# EAGLE library part *555 (library HyTechDevices)
**555 Precision Timer NA555, NE555, SA555, SE555 <https://www.ti.com/lit/ds/symlink/na555.pdf> LM555 <https://www.ti.com/lit/ds/symlink/lm555.pdf>
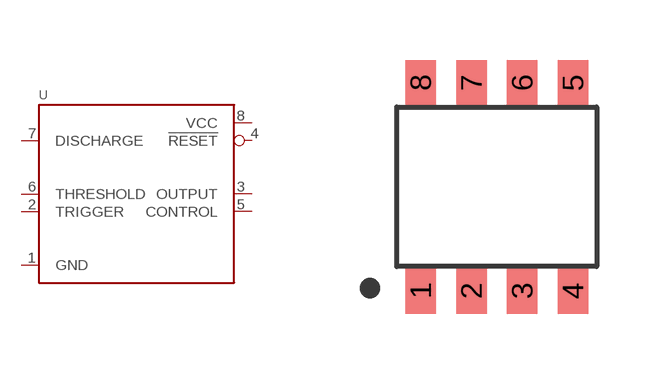
[diagram p26: symbol with the pads of SOIC-08(NARROW,0.15"); footprint SOIC-08(NARROW,0.15")]

Designator prefix U

## LM555 (DKPN: LM555CMX/NOPBCT-ND; MANUFACTURER: Texas Instruments; MOPN: 926-LM555CMX/NOPB; MPN: LM555CMX/NOPB), NA555 (DKPN: NA555D-ND; MANUFACTURER: Texas Instruments; MOPN: 595-NA555D; MPN: NA555D)  [SOIC-08(NARROW,0.15")]
1  GND  pwr
2  TRIGGER  in
3  OUTPUT  out
4  !RESET  in
5  CONTROL  in
6  THRESHOLD  in
7  DISCHARGE  in
8  VCC  pwr

## Footprint SOIC-08(NARROW,0.15") (pad centres in mm)
SOIC-8 Datasheet <https://www.analog.com/media/en/package-pcb-resources/package/pkg_pdf/ltc-legacy-soic/05081610_G_SO8.pdf>
smd 0.762 x 1.143: 1 -1.905,-2.603; 2 -0.635,-2.603; 3 0.635,-2.603; 4 1.905,-2.603; 5 1.905,2.603; 6 0.635,2.603; 7 -0.635,2.603; 8 -1.905,2.603